# EAGLE library part 61302015721 (library Board-to-Board (rev18a))
WR-PHD 2.54mm Socket Header Bottom Entry, 20 Pins =>Code : Con_BTB_SHD_2.54_1_THT_61302015721 <http://katalog.we-online.de/media/images/eican/Con_BTB_SHD_2.54_1_THT_6130xx15721_pf2.jpg> Details see: http://katalog.we-online.de/en/em/613_0xx_157_21 Created 2014-05-30, Karrer Zheng 2014 (C) Würth Elektronik
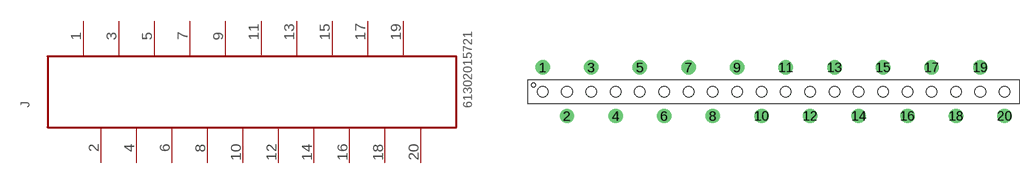
[diagram p151: symbol with the pads of 61302015721; footprint 61302015721]

Designator prefix J

## 61302015721  [61302015721]
1  20  pas
2  19  pas
3  18  pas
4  17  pas
5  16  pas
6  15  pas
7  14  pas
8  13  pas
9  12  pas
10  11  pas
11  10  pas
12  9  pas
13  8  pas
14  7  pas
15  6  pas
16  5  pas
17  4  pas
18  3  pas
19  2  pas
20  1  pas

## Footprint 61302015721 (pad centres in mm)
WR-PHD 2.54mm Socket Header Bottom Entry, 20 Pins
drill 1: 1 -24.13,2.54; 2 -21.59,-2.54; 3 -19.05,2.54; 4 -16.51,-2.54; 5 -13.97,2.54; 6 -11.43,-2.54; 7 -8.89,2.54; 8 -6.35,-2.54; 9 -3.81,2.54; 10 -1.27,-2.54; 11 1.27,2.54; 12 3.81,-2.54; 13 6.35,2.54; 14 8.89,-2.54; 15 11.43,2.54; 16 13.97,-2.54; 17 16.51,2.54; 18 19.05,-2.54; 19 21.59,2.54; 20 24.13,-2.54
hole 1.1 at -24.13,0
hole 1.1 at -21.59,0
hole 1.1 at -19.05,0
hole 1.1 at -16.51,0
hole 1.1 at -13.97,0
hole 1.1 at -11.43,0
hole 1.1 at -8.89,0
hole 1.1 at -6.35,0
hole 1.1 at -3.81,0
hole 1.1 at -1.27,0
hole 1.1 at 1.27,0
hole 1.1 at 3.81,0
hole 1.1 at 6.35,0
hole 1.1 at 8.89,0
hole 1.1 at 11.43,0
hole 1.1 at 13.97,0
hole 1.1 at 16.51,0
hole 1.1 at 19.05,0
hole 1.1 at 21.59,0
hole 1.1 at 24.13,0